# EAGLE library part NGBEACON-CONN (library ng-beacon)
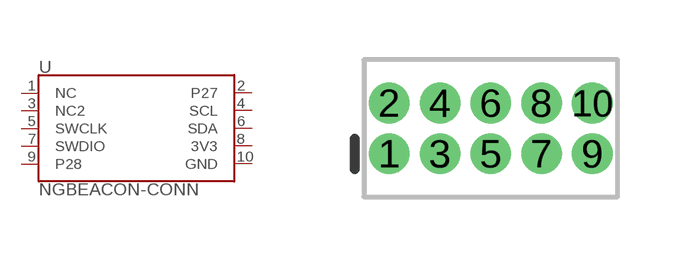
[diagram p4: symbol with the pads of 2X5-PTH-1.27MM; footprint 2X5-PTH-1.27MM]

Designator prefix -

## NGBEACON-CONN  [2X5-PTH-1.27MM]
1  NC
2  P27
3  NC2
4  SCL
5  SWCLK
6  SDA
7  SWDIO
8  3V3
9  P28
10  GND

## Footprint 2X5-PTH-1.27MM (pad centres in mm)
drill 0.508 pad 1: 1 -2.54,-0.635; 2 -2.54,0.635; 3 -1.27,-0.635; 4 -1.27,0.635; 5 0,-0.635; 6 0,0.635; 7 1.27,-0.635; 8 1.27,0.635; 9 2.54,-0.635; 10 2.54,0.635